# EAGLE library part LM2678 (library PMIC Buck Controller - LM2678, LM2576)
LM2678 Buck Converter IC 12V-to-5V
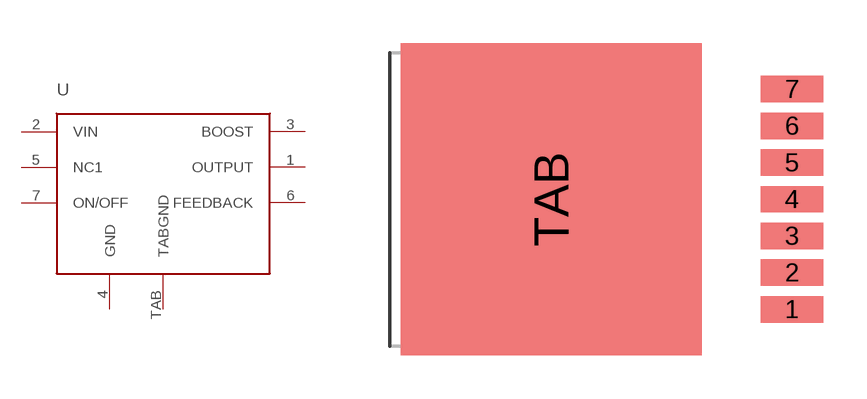
[diagram p0: symbol with the pads of D2PAK/TO-263; footprint D2PAK/TO-263]

Designator prefix U

## LM2678  [D2PAK/TO-263]
1  OUTPUT  out
2  VIN  pwr
3  BOOST
4  GND  pwr
5  NC1  nc
6  FEEDBACK  in
7  ON/OFF  in
TAB  TABGND  pwr

## Footprint D2PAK/TO-263 (pad centres in mm)
http://www.ti.com/lit/ds/symlink/lm2678.pdf D2PAK-7
smd 2.159 x 0.914: 1 8.331,-3.81; 2 8.331,-2.54; 3 8.331,-1.27; 4 8.331,0; 5 8.331,1.27; 6 8.331,2.54; 7 8.331,3.81
smd 10.414 x 10.795: TAB 0,0